# EAGLE library part 555_TIMER (library jack_IC)
SE555
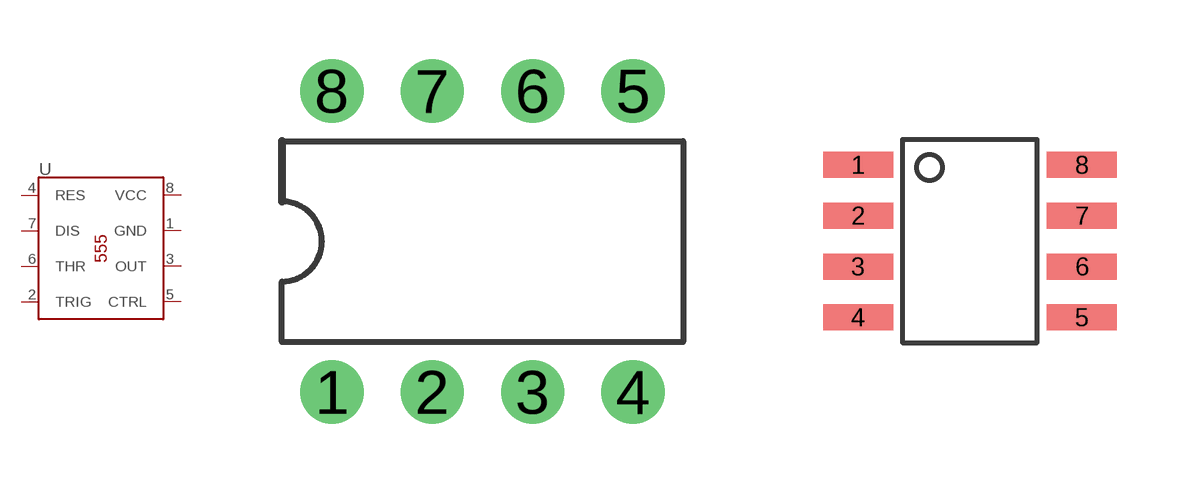
[diagram p2: symbol with the pads of DIL08; footprints DIL08, SOIC_8]

Designator prefix U

## 555_TIMER_DIP8  [DIL08]
1  GND
2  TRIG
3  OUT
4  RES
5  CTRL
6  THR
7  DIS
8  VCC

## 555_TIMER_SOIC-8  [SOIC_8]
Pads as for DIL08

## Footprint DIL08 (pad centres in mm)
Dual In Line
drill 0.813 pad 1.6: 1 -3.81,-3.81; 2 -1.27,-3.81; 3 1.27,-3.81; 4 3.81,-3.81; 5 3.81,3.81; 6 1.27,3.81; 7 -1.27,3.81; 8 -3.81,3.81

## Footprint SOIC_8 (pad centres in mm)
smd 1.75 x 0.65: 1 -2.8,1.905; 2 -2.8,0.635; 3 -2.8,-0.635; 4 -2.8,-1.905; 5 2.8,-1.905; 6 2.8,-0.635; 7 2.8,0.635; 8 2.8,1.905